# EAGLE library part SN74LVC1G74 (library PaxInstrument-T400)
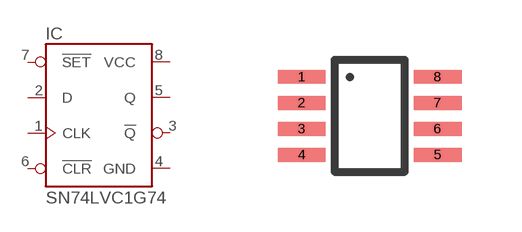
[diagram p12: symbol with the pads of SSOP8; footprint SSOP8]

Designator prefix IC

## SN74LVC1G74DCT  [SSOP8]
1  CLK  in
2  D  in
3  !Q  out
4  GND  pwr
5  Q  out
6  !CLR  in
7  !SET  in
8  VCC  pwr

## Footprint SSOP8 (pad centres in mm)
smd 1.2 x 0.35: 1 -1.7,0.975; 2 -1.7,0.325; 3 -1.7,-0.325; 4 -1.7,-0.975; 5 1.7,-0.975; 6 1.7,-0.325; 7 1.7,0.325; 8 1.7,0.975